# Altium schematic symbol library TP.Schlib: 1 symbol
Pins are listed as number, name and electrical type; pins without a type are passive.

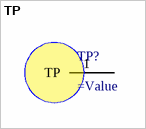
[diagram p0: symbol TP]

## TP
designator TP?  (no BOM)
=Description
pins: 1 TP